# Altium footprint library Basic-Logic-Gates-PcbLib.PcbLib: 7 footprints
Each footprint in its own frame and in the unit in brackets; x right, y up, seen from the top. Pads: shape width x height; smd on the part's side, far side on the other; paste and mask are expansions set on the pad; w line width, h text height; cw(c..) or ccw(c..) is an arc to the next point about the centre after c.
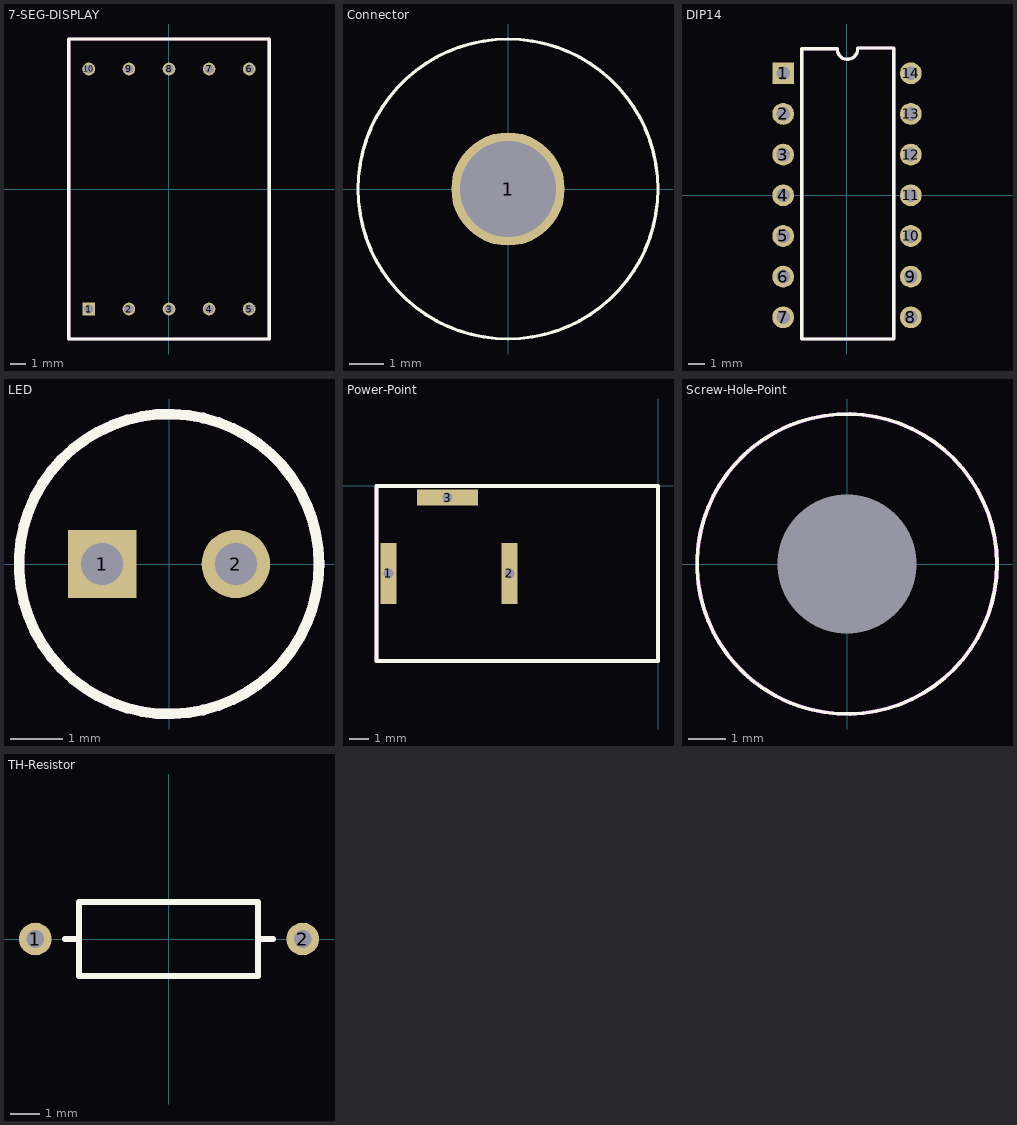
[diagram p0: the footprints below, top view; thin cyan lines are the x and y axes]

## 7-SEG-DISPLAY [mm]
pads (10):
  rect 0.8x0.8 hole 0.6: 1(-5.08,-7.6)
  round 0.8 hole 0.6: 2(-2.54,-7.6) 3(0,-7.6) 4(2.54,-7.6) 5(5.08,-7.6) 6(5.08,7.6) 7(2.54,7.6) 8(0,7.6) 9(-2.54,7.6) 10(-5.08,7.6)
Top Overlay:
  lines w0.2: -6.35,-9.5 -6.35,9.5 6.35,9.5 6.35,-9.5 -6.35,-9.5
Top Assembly:
  lines w0.2: -6.35,-9.5 -6.35,9.5 6.35,9.5 6.35,-9.5 -6.35,-9.5
  text ".Designator" at -3.199,-0.067 h0.7

## Connector [mm] "Point to place the jack"
pads (1):
  round 3.3 hole 2.8: 1(0,0)
Top Overlay:
  circle w0.1: c0,0 r4.364
Top Assembly:
  text ".Designator" at -3.499,0.333 h0.7

## DIP14 [mm]
pads (14):
  rect 1.36x1.36 hole 0.86: 1(-3.985,7.62)
  round 1.36 hole 0.86: 2(-3.985,5.08) 3(-3.985,2.54) 4(-3.985,0) 5(-3.985,-2.54) 6(-3.985,-5.08) 7(-3.985,-7.62) 8(3.985,-7.62) 9(3.985,-5.08) 10(3.985,-2.54) 11(3.985,0) 12(3.985,2.54) 13(3.985,5.08) 14(3.985,7.62)
Top Overlay:
  lines w0.2: -2.825,9.15 -2.825,-8.975 2.915,-8.975 2.915,9.195 0.65,9.195 ; -2.8,9.15 -0.6,9.15 ; -0.61,9.125 ccw(c0.025,9.125) 0.66,9.125
Top Assembly:
  lines w0.2: -2.825,9.15 -2.825,-8.975 2.915,-8.975 2.915,9.195 0.65,9.195 ; -2.8,9.15 -0.6,9.15 ; -0.61,9.125 ccw(c0.025,9.125) 0.66,9.125
  text ".Designator" at -2.771,-0.8 h0.7

## LED [mm]
pads (2):
  rect 1.3x1.3 hole 0.8: 1(-1.27,0)
  round 1.3 hole 0.8: 2(1.27,0)
Top Overlay:
  circle w0.2: c0,0 r2.85
Top Assembly:
  circle w0.2: c0,0 r2.85
  text ".Designator" at -3.499,0.333 h0.7

## Power-Point [mm]
pads (3):
  rect 0.8x3.1 hole 0.5 square: 1(-13.7,-4.45) 2(-7.55,-4.45)
  rect 3.1x0.8 hole 0.5 square: 3(-10.7,-0.6)
Top Overlay:
  lines w0.2: -14.3,-8.9 -14.3,0 ; -14.3,-8.9 0,-8.9 ; -14.3,-8.9 -14.3,0 ; -14.3,-8.9 0,-8.9 ; -14.3,0 0,0 ; -14.3,0 0,0 ; 0,-8.9 0,0 ; 0,-8.9 0,0
Top Assembly:
  lines w0.2: -14.3,-8.9 -14.3,0 0,0 0,-8.9 -14.3,-8.9
  text ".Designator" at -10.199,-3.967 h0.7

## Screw-Hole-Point [mm]
pads (1):
  round 0 hole 3.7: 1(0,0)
Top Overlay:
  circle w0.1: c0,0 r4.005
Keep-Out Layer:
  circle w0.1: c0,0 r4.005
Top Assembly:
  circle w0.1: c0,0 r4.001
  text ".Designator" at -2.399,2.333 h0.7

## TH-Resistor [mm]
pads (2):
  round 1.1 hole 0.6: 1(-4.5,0) 2(4.5,0)
Top Overlay:
  lines w0.2: -3.5,0 -3.025,0 ; 3,0 3.5,0 ; -3.025,-1.25 -3.025,1.25 3,1.25 3,-1.25 -3.025,-1.25
Top Assembly:
  lines w0.2: -3.5,0 -3.025,0 ; 3,0 3.5,0 ; -3.025,-1.25 -3.025,1.25 3,1.25 3,-1.25 -3.025,-1.25
  text ".Designator" at -3.499,0.333 h0.7